# EAGLE library part CXA2075 (library Custom)
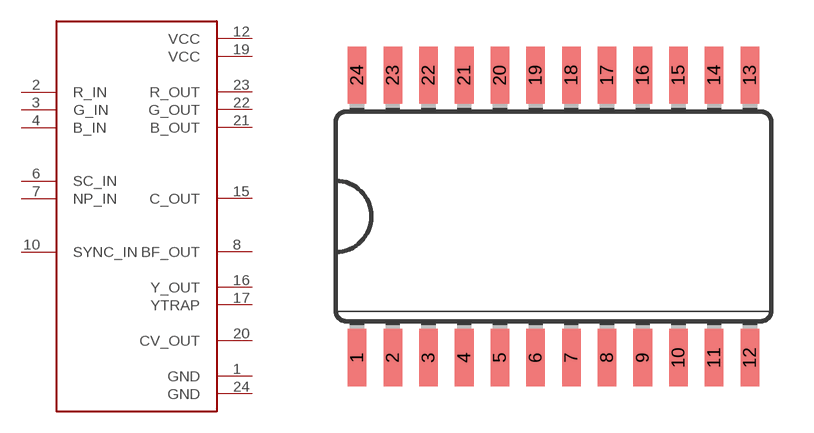
[diagram p39: symbol with the pads of SO24W; footprint SO24W]

Designator prefix -

## CXA2075SO24W  [SO24W]
1  GND
2  R_IN
3  G_IN
4  B_IN
6  SC_IN
7  NP_IN
8  BF_OUT
10  SYNC_IN
12  VCC
15  C_OUT
16  Y_OUT
17  YTRAP
19  VCC
20  CV_OUT
21  B_OUT
22  G_OUT
23  R_OUT
24  GND

## Footprint SO24W (pad centres in mm)
Wide Small Outline package 300 mil
smd 0.66 x 2.032: 1 -6.985,-5.029; 2 -5.715,-5.029; 3 -4.445,-5.029; 4 -3.175,-5.029; 5 -1.905,-5.029; 6 -0.635,-5.029; 7 0.635,-5.029; 8 1.905,-5.029; 9 3.175,-5.029; 10 4.445,-5.029; 11 5.715,-5.029; 12 6.985,-5.029; 13 6.985,5.029; 14 5.715,5.029; 15 4.445,5.029; 16 3.175,5.029; 17 1.905,5.029; 18 0.635,5.029; 19 -0.635,5.029; 20 -1.905,5.029; 21 -3.175,5.029; 22 -4.445,5.029; 23 -5.715,5.029; 24 -6.985,5.029